# EAGLE library part CON-6 (library chuong)
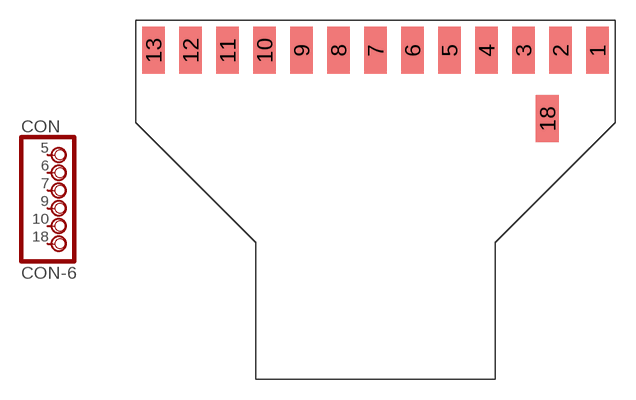
[diagram p85: symbol with the pads of CON-6; footprint CON-6]

Designator prefix CON

## CON-6  [CON-6]
5  5  pas
6  6  pas
7  7  pas
9  9  pas
10  10  pas
18  18  pas

## Footprint CON-6 (pad centres in mm)
smd 1.7 x 3.5: 1 34.239,-3.505; 2 31.496,-3.505; 3 28.753,-3.505; 4 26.01,-3.505; 5 23.266,-3.505; 6 20.523,-3.505; 7 17.78,-3.505; 8 15.037,-3.505; 9 12.294,-3.505; 10 9.55,-3.505; 11 6.807,-3.505; 12 4.064,-3.505; 13 1.321,-3.505; 18 30.531,-8.585